# Altium schematic symbol library jlcpcb_2025_04_inductors_extended_0201.schlib: 459 symbols (part 1 of 9)
Pins are listed as number, name and electrical type; pins without a type are passive.

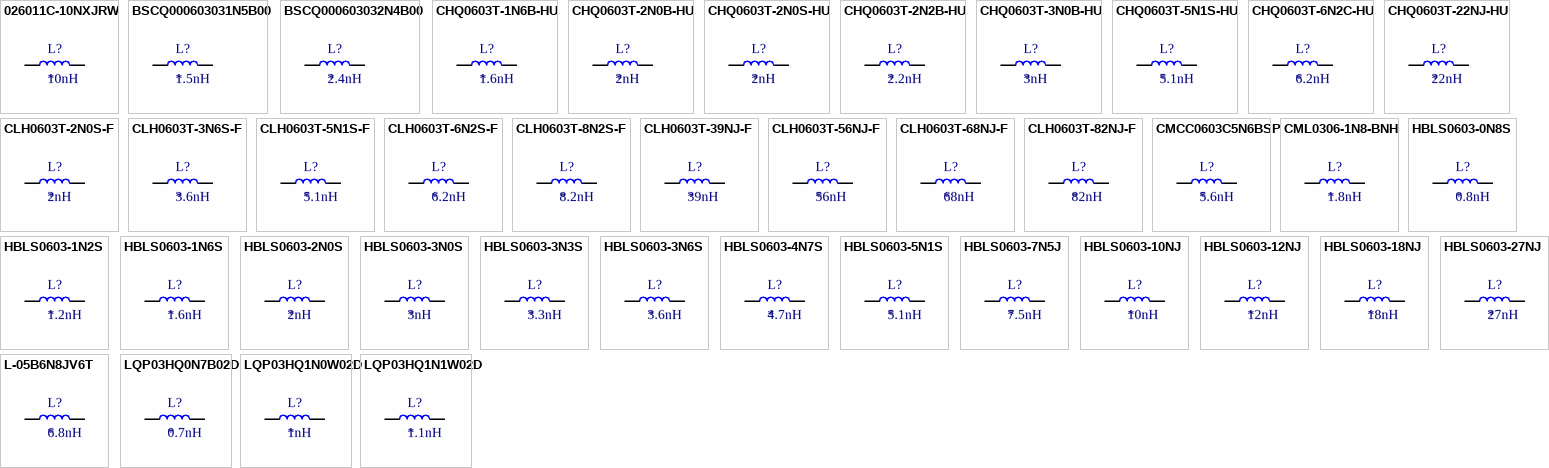
[diagram p0: symbols 026011C-10NXJRW to LQP03HQ1N1W02D]

## 026011C-10NXJRW
designator L?  Inductance: 10nH
Inductor, 10nH, ±5%, 190mΩ, 390mA, SMD 0201; Manufacturer: Coilcraft; Manufacturer Part Number: 026011C-10NXJRW; Self-Resonant Frequency: 7.5GHz; Q Factor: 47@900MHz; Package Size: 0201; JLCPCB Basic Part: No; JLCPCB Part Number: C335640; Supplier 1: LCSC; Category: Inductors; Supplier Part Number 1: C335640; Tolerance: ±5%; Rated Current: 390mA; DC Resistance: 190mΩ; RoHS: Yes; ComponentLink1Description: Datasheet; ComponentLink1URL: https://wmsc.lcsc.com/wmsc/upload/file/pdf/v2/lcsc/2304140030_Coilcraft-026011C-10NXJRW_C335640.pdf; ComponentLink2Description: JLCPCB Part URL; ComponentLink2URL: https://jlcpcb.com/partdetail/C335640; ComponentLink3Description: LCSC Part URL; ComponentLink3URL: https://lcsc.com/product-detail/Inductors-SMD_Coilcraft-Coilcraft-026011C-10NXJRW_C335640.html
footprint IND-0201 (0201 (0603M) Inductor)
pins: 1, 2

## BSCQ000603031N5B00
designator L?  Inductance: 1.5nH
Inductor, 1.5nH, 150mΩ, 600mA, SMD 0201; Manufacturer: Chilisin Elec; Manufacturer Part Number: BSCQ000603031N5B00; Self-Resonant Frequency: 10GHz; Q Factor: 14@500MHz; Package Size: 0201; JLCPCB Basic Part: No; JLCPCB Part Number: C2847095; Supplier 1: LCSC; Category: Inductors; Supplier Part Number 1: C2847095; Rated Current: 600mA; DC Resistance: 150mΩ; RoHS: Yes; ComponentLink1Description: Datasheet; ComponentLink1URL: https://wmsc.lcsc.com/wmsc/upload/file/pdf/v2/lcsc/2108142130_Chilisin-Elec-BSCQ000603031N5B00_C2847095.pdf; ComponentLink2Description: JLCPCB Part URL; ComponentLink2URL: https://jlcpcb.com/partdetail/C2847095; ComponentLink3Description: LCSC Part URL; ComponentLink3URL: https://lcsc.com/product-detail/Inductors-SMD_Chilisin-Elec-Chilisin-Elec-BSCQ000603031N5B00_C2847095.html
footprint IND-0201 (0201 (0603M) Inductor)
pins: 1, 2

## BSCQ000603032N4B00
designator L?  Inductance: 2.4nH
Inductor, 2.4nH, 260mΩ, 430mA, SMD 0201; Manufacturer: Chilisin Elec; Manufacturer Part Number: BSCQ000603032N4B00; Self-Resonant Frequency: 10GHz; Q Factor: 14@500MHz; Package Size: 0201; JLCPCB Basic Part: No; JLCPCB Part Number: C2935075; Supplier 1: LCSC; Category: Inductors; Supplier Part Number 1: C2935075; Rated Current: 430mA; DC Resistance: 260mΩ; RoHS: Yes; ComponentLink1Description: Datasheet; ComponentLink1URL: https://wmsc.lcsc.com/wmsc/upload/file/pdf/v2/lcsc/2211011730_Chilisin-Elec-BSCQ000603032N4B00_C2935075.pdf; ComponentLink2Description: JLCPCB Part URL; ComponentLink2URL: https://jlcpcb.com/partdetail/C2935075; ComponentLink3Description: LCSC Part URL; ComponentLink3URL: https://lcsc.com/product-detail/Inductors-SMD_Chilisin-Elec-Chilisin-Elec-BSCQ000603032N4B00_C2935075.html
footprint IND-0201 (0201 (0603M) Inductor)
pins: 1, 2

## CHQ0603T-1N6B-HU
designator L?  Inductance: 1.6nH
Inductor, 1.6nH, 190mΩ, 510mA, SMD 0201; Manufacturer: Chilisin Elec; Manufacturer Part Number: CHQ0603T-1N6B-HU; Package Size: 0201; JLCPCB Basic Part: No; JLCPCB Part Number: C910019; Supplier 1: LCSC; Category: Inductors; Supplier Part Number 1: C910019; Rated Current: 510mA; DC Resistance: 190mΩ; RoHS: Yes; ComponentLink1Description: Datasheet; ComponentLink1URL: https://wmsc.lcsc.com/wmsc/upload/file/pdf/v2/lcsc/2304140030_Chilisin-Elec-CHQ0603T-1N6B-HU_C910019.pdf; ComponentLink2Description: JLCPCB Part URL; ComponentLink2URL: https://jlcpcb.com/partdetail/C910019; ComponentLink3Description: LCSC Part URL; ComponentLink3URL: https://lcsc.com/product-detail/Inductors-SMD_Chilisin-Elec-Chilisin-Elec-CHQ0603T-1N6B-HU_C910019.html
footprint IND-0201 (0201 (0603M) Inductor)
pins: 1, 2

## CHQ0603T-2N0B-HU
designator L?  Inductance: 2nH
Inductor, 2nH, 150mΩ, 600mA, SMD 0201; Manufacturer: Chilisin Elec; Manufacturer Part Number: CHQ0603T-2N0B-HU; Self-Resonant Frequency: 10GHz; Q Factor: 14@500MHz; Package Size: 0201; JLCPCB Basic Part: No; JLCPCB Part Number: C295686; Supplier 1: LCSC; Category: Inductors; Supplier Part Number 1: C295686; Rated Current: 600mA; DC Resistance: 150mΩ; RoHS: Yes; ComponentLink1Description: Datasheet; ComponentLink1URL: https://wmsc.lcsc.com/wmsc/upload/file/pdf/v2/lcsc/2304140030_Chilisin-Elec-CHQ0603T-2N0B-HU_C295686.pdf; ComponentLink2Description: JLCPCB Part URL; ComponentLink2URL: https://jlcpcb.com/partdetail/C295686; ComponentLink3Description: LCSC Part URL; ComponentLink3URL: https://lcsc.com/product-detail/Inductors-SMD_Chilisin-Elec-Chilisin-Elec-CHQ0603T-2N0B-HU_C295686.html
footprint IND-0201 (0201 (0603M) Inductor)
pins: 1, 2

## CHQ0603T-2N0S-HU
designator L?  Inductance: 2nH
Inductor, 2nH, 150mΩ, 600mA, SMD 0201; Manufacturer: Chilisin Elec; Manufacturer Part Number: CHQ0603T-2N0S-HU; Package Size: 0201; JLCPCB Basic Part: No; JLCPCB Part Number: C910030; Supplier 1: LCSC; Category: Inductors; Supplier Part Number 1: C910030; Rated Current: 600mA; DC Resistance: 150mΩ; RoHS: Yes; ComponentLink1Description: Datasheet; ComponentLink1URL: https://wmsc.lcsc.com/wmsc/upload/file/pdf/v2/lcsc/2304140030_Chilisin-Elec-CHQ0603T-2N0S-HU_C910030.pdf; ComponentLink2Description: JLCPCB Part URL; ComponentLink2URL: https://jlcpcb.com/partdetail/C910030; ComponentLink3Description: LCSC Part URL; ComponentLink3URL: https://lcsc.com/product-detail/Inductors-SMD_Chilisin-Elec-Chilisin-Elec-CHQ0603T-2N0S-HU_C910030.html
footprint IND-0201 (0201 (0603M) Inductor)
pins: 1, 2

## CHQ0603T-2N2B-HU
designator L?  Inductance: 2.2nH
Inductor, 2.2nH, 200mΩ, 500mA, SMD 0201; Manufacturer: Chilisin Elec; Manufacturer Part Number: CHQ0603T-2N2B-HU; Self-Resonant Frequency: 10GHz; Q Factor: 14@500MHz; Package Size: 0201; JLCPCB Basic Part: No; JLCPCB Part Number: C373768; Supplier 1: LCSC; Category: Inductors; Supplier Part Number 1: C373768; Rated Current: 500mA; DC Resistance: 200mΩ; RoHS: Yes; ComponentLink1Description: Datasheet; ComponentLink1URL: https://wmsc.lcsc.com/wmsc/upload/file/pdf/v2/lcsc/2304140030_Chilisin-Elec-CHQ0603T-2N2B-HU_C373768.pdf; ComponentLink2Description: JLCPCB Part URL; ComponentLink2URL: https://jlcpcb.com/partdetail/C373768; ComponentLink3Description: LCSC Part URL; ComponentLink3URL: https://lcsc.com/product-detail/Inductors-SMD_Chilisin-Elec-Chilisin-Elec-CHQ0603T-2N2B-HU_C373768.html
footprint IND-0201 (0201 (0603M) Inductor)
pins: 1, 2

## CHQ0603T-3N0B-HU
designator L?  Inductance: 3nH
Inductor, 3nH, 240mΩ, 460mA, SMD 0201; Manufacturer: Chilisin Elec; Manufacturer Part Number: CHQ0603T-3N0B-HU; Self-Resonant Frequency: 9.1GHz; Q Factor: 14@500MHz; Package Size: 0201; JLCPCB Basic Part: No; JLCPCB Part Number: C373753; Supplier 1: LCSC; Category: Inductors; Supplier Part Number 1: C373753; Rated Current: 460mA; DC Resistance: 240mΩ; RoHS: Yes; ComponentLink1Description: Datasheet; ComponentLink1URL: https://wmsc.lcsc.com/wmsc/upload/file/pdf/v2/lcsc/2304140030_Chilisin-Elec-CHQ0603T-3N0B-HU_C373753.pdf; ComponentLink2Description: JLCPCB Part URL; ComponentLink2URL: https://jlcpcb.com/partdetail/C373753; ComponentLink3Description: LCSC Part URL; ComponentLink3URL: https://lcsc.com/product-detail/Inductors-SMD_Chilisin-Elec-Chilisin-Elec-CHQ0603T-3N0B-HU_C373753.html
footprint IND-0201 (0201 (0603M) Inductor)
pins: 1, 2

## CHQ0603T-5N1S-HU
designator L?  Inductance: 5.1nH
Inductor, 5.1nH, 450mΩ, 330mA, SMD 0201; Manufacturer: Chilisin Elec; Manufacturer Part Number: CHQ0603T-5N1S-HU; Package Size: 0201; JLCPCB Basic Part: No; JLCPCB Part Number: C910029; Supplier 1: LCSC; Category: Inductors; Supplier Part Number 1: C910029; Rated Current: 330mA; DC Resistance: 450mΩ; RoHS: Yes; ComponentLink1Description: Datasheet; ComponentLink1URL: https://wmsc.lcsc.com/wmsc/upload/file/pdf/v2/lcsc/2304140030_Chilisin-Elec-CHQ0603T-5N1S-HU_C910029.pdf; ComponentLink2Description: JLCPCB Part URL; ComponentLink2URL: https://jlcpcb.com/partdetail/C910029; ComponentLink3Description: LCSC Part URL; ComponentLink3URL: https://lcsc.com/product-detail/Inductors-SMD_Chilisin-Elec-Chilisin-Elec-CHQ0603T-5N1S-HU_C910029.html
footprint IND-0201 (0201 (0603M) Inductor)
pins: 1, 2

## CHQ0603T-6N2C-HU
designator L?  Inductance: 6.2nH
Inductor, 6.2nH, 520mΩ, SMD 0201; Manufacturer: Chilisin Elec; Manufacturer Part Number: CHQ0603T-6N2C-HU; Package Size: 0201; JLCPCB Basic Part: No; JLCPCB Part Number: C2844914; Supplier 1: LCSC; Category: Inductors; Supplier Part Number 1: C2844914; DC Resistance: 520mΩ; RoHS: Yes; ComponentLink1Description: Datasheet; ComponentLink1URL: https://wmsc.lcsc.com/wmsc/upload/file/pdf/v2/lcsc/2304140030_Chilisin-Elec-CHQ0603T-6N2C-HU_C2844914.pdf; ComponentLink2Description: JLCPCB Part URL; ComponentLink2URL: https://jlcpcb.com/partdetail/C2844914; ComponentLink3Description: LCSC Part URL; ComponentLink3URL: https://lcsc.com/product-detail/Inductors-SMD_Chilisin-Elec-Chilisin-Elec-CHQ0603T-6N2C-HU_C2844914.html
footprint IND-0201 (0201 (0603M) Inductor)
pins: 1, 2

## CHQ0603T-22NJ-HU
designator L?  Inductance: 22nH
Inductor, 22nH, ±5%, 1.29Ω, 190mA, SMD 0201; Manufacturer: Chilisin Elec; Manufacturer Part Number: CHQ0603T-22NJ-HU; Package Size: 0201; JLCPCB Basic Part: No; JLCPCB Part Number: C910032; Supplier 1: LCSC; Category: Inductors; Supplier Part Number 1: C910032; Tolerance: ±5%; Rated Current: 190mA; DC Resistance: 1.29Ω; RoHS: Yes; ComponentLink1Description: Datasheet; ComponentLink1URL: https://wmsc.lcsc.com/wmsc/upload/file/pdf/v2/lcsc/2304140030_Chilisin-Elec-CHQ0603T-22NJ-HU_C910032.pdf; ComponentLink2Description: JLCPCB Part URL; ComponentLink2URL: https://jlcpcb.com/partdetail/C910032; ComponentLink3Description: LCSC Part URL; ComponentLink3URL: https://lcsc.com/product-detail/Inductors-SMD_Chilisin-Elec-Chilisin-Elec-CHQ0603T-22NJ-HU_C910032.html
footprint IND-0201 (0201 (0603M) Inductor)
pins: 1, 2

## CLH0603T-2N0S-F
designator L?  Inductance: 2nH
Inductor, 2nH, 170mΩ, 380mA, SMD 0201; Manufacturer: Chilisin Elec; Manufacturer Part Number: CLH0603T-2N0S-F; Self-Resonant Frequency: 10GHz; Q Factor: 4@100MHz; Package Size: 0201; JLCPCB Basic Part: No; JLCPCB Part Number: C108230; Supplier 1: LCSC; Category: Inductors; Supplier Part Number 1: C108230; Rated Current: 380mA; DC Resistance: 170mΩ; RoHS: Yes; ComponentLink1Description: Datasheet; ComponentLink1URL: https://wmsc.lcsc.com/wmsc/upload/file/pdf/v2/lcsc/2304140030_Chilisin-Elec-CLH0603T-2N0S-F_C108230.pdf; ComponentLink2Description: JLCPCB Part URL; ComponentLink2URL: https://jlcpcb.com/partdetail/C108230; ComponentLink3Description: LCSC Part URL; ComponentLink3URL: https://lcsc.com/product-detail/Inductors-SMD_Chilisin-Elec-Chilisin-Elec-CLH0603T-2N0S-F_C108230.html
footprint IND-0201 (0201 (0603M) Inductor)
pins: 1, 2

## CLH0603T-3N6S-F
designator L?  Inductance: 3.6nH
Inductor, 3.6nH, 250mΩ, 310mA, SMD 0201; Manufacturer: Chilisin Elec; Manufacturer Part Number: CLH0603T-3N6S-F; Self-Resonant Frequency: 6.4GHz; Q Factor: 4@100MHz; Package Size: 0201; JLCPCB Basic Part: No; JLCPCB Part Number: C108237; Supplier 1: LCSC; Category: Inductors; Supplier Part Number 1: C108237; Rated Current: 310mA; DC Resistance: 250mΩ; RoHS: Yes; ComponentLink1Description: Datasheet; ComponentLink1URL: https://wmsc.lcsc.com/wmsc/upload/file/pdf/v2/lcsc/2304140030_Chilisin-Elec-CLH0603T-3N6S-F_C108237.pdf; ComponentLink2Description: JLCPCB Part URL; ComponentLink2URL: https://jlcpcb.com/partdetail/C108237; ComponentLink3Description: LCSC Part URL; ComponentLink3URL: https://lcsc.com/product-detail/Inductors-SMD_Chilisin-Elec-Chilisin-Elec-CLH0603T-3N6S-F_C108237.html
footprint IND-0201 (0201 (0603M) Inductor)
pins: 1, 2

## CLH0603T-5N1S-F
designator L?  Inductance: 5.1nH
Inductor, 5.1nH, 330mΩ, 270mA, SMD 0201; Manufacturer: Chilisin Elec; Manufacturer Part Number: CLH0603T-5N1S-F; Self-Resonant Frequency: 5GHz; Q Factor: 4@100MHz; Package Size: 0201; JLCPCB Basic Part: No; JLCPCB Part Number: C108241; Supplier 1: LCSC; Category: Inductors; Supplier Part Number 1: C108241; Rated Current: 270mA; DC Resistance: 330mΩ; RoHS: Yes; ComponentLink1Description: Datasheet; ComponentLink1URL: https://wmsc.lcsc.com/wmsc/upload/file/pdf/v2/lcsc/2304140030_Chilisin-Elec-CLH0603T-5N1S-F_C108241.pdf; ComponentLink2Description: JLCPCB Part URL; ComponentLink2URL: https://jlcpcb.com/partdetail/C108241; ComponentLink3Description: LCSC Part URL; ComponentLink3URL: https://lcsc.com/product-detail/Inductors-SMD_Chilisin-Elec-Chilisin-Elec-CLH0603T-5N1S-F_C108241.html
footprint IND-0201 (0201 (0603M) Inductor)
pins: 1, 2

## CLH0603T-6N2S-F
designator L?  Inductance: 6.2nH
Inductor, 6.2nH, 380mΩ, 250mA, SMD 0201; Manufacturer: Chilisin Elec; Manufacturer Part Number: CLH0603T-6N2S-F; Self-Resonant Frequency: 4.2GHz; Q Factor: 4@100MHz; Package Size: 0201; JLCPCB Basic Part: No; JLCPCB Part Number: C142255; Supplier 1: LCSC; Category: Inductors; Supplier Part Number 1: C142255; Rated Current: 250mA; DC Resistance: 380mΩ; RoHS: Yes; ComponentLink1Description: Datasheet; ComponentLink1URL: https://wmsc.lcsc.com/wmsc/upload/file/pdf/v2/lcsc/2304140030_Chilisin-Elec-CLH0603T-6N2S-F_C142255.pdf; ComponentLink2Description: JLCPCB Part URL; ComponentLink2URL: https://jlcpcb.com/partdetail/C142255; ComponentLink3Description: LCSC Part URL; ComponentLink3URL: https://lcsc.com/product-detail/Inductors-SMD_Chilisin-Elec-Chilisin-Elec-CLH0603T-6N2S-F_C142255.html
footprint IND-0201 (0201 (0603M) Inductor)
pins: 1, 2

## CLH0603T-8N2S-F
designator L?  Inductance: 8.2nH
Inductor, 8.2nH, ±5%, 0.45Ω, 230mA, SMD 0201; Manufacturer: Chilisin Elec; Manufacturer Part Number: CLH0603T-8N2S-F; Self-Resonant Frequency: 3.4GHz; Q Factor: 4@100MHz; Package Size: 0201; JLCPCB Basic Part: No; JLCPCB Part Number: C2847102; Supplier 1: LCSC; Category: Inductors; Supplier Part Number 1: C2847102; Tolerance: ±5%; Rated Current: 230mA; DC Resistance: 0.45Ω; RoHS: Yes; ComponentLink1Description: Datasheet; ComponentLink1URL: https://wmsc.lcsc.com/wmsc/upload/file/pdf/v2/lcsc/2111301730_Chilisin-Elec-CLH0603T-8N2S-F_C2847102.pdf; ComponentLink2Description: JLCPCB Part URL; ComponentLink2URL: https://jlcpcb.com/partdetail/C2847102; ComponentLink3Description: LCSC Part URL; ComponentLink3URL: https://lcsc.com/product-detail/Inductors-SMD_Chilisin-Elec-Chilisin-Elec-CLH0603T-8N2S-F_C2847102.html
footprint IND-0201 (0201 (0603M) Inductor)
pins: 1, 2

## CLH0603T-39NJ-F
designator L?  Inductance: 39nH
Inductor, 39nH, ±5%, 1.72Ω, 100mA, SMD 0201; Manufacturer: Chilisin Elec; Manufacturer Part Number: CLH0603T-39NJ-F; Self-Resonant Frequency: 1.5GHz; Q Factor: 4@100MHz; Package Size: 0201; JLCPCB Basic Part: No; JLCPCB Part Number: C142259; Supplier 1: LCSC; Category: Inductors; Supplier Part Number 1: C142259; Tolerance: ±5%; Rated Current: 100mA; DC Resistance: 1.72Ω; RoHS: Yes; ComponentLink1Description: Datasheet; ComponentLink1URL: https://wmsc.lcsc.com/wmsc/upload/file/pdf/v2/lcsc/2304140030_Chilisin-Elec-CLH0603T-39NJ-F_C142259.pdf; ComponentLink2Description: JLCPCB Part URL; ComponentLink2URL: https://jlcpcb.com/partdetail/C142259; ComponentLink3Description: LCSC Part URL; ComponentLink3URL: https://lcsc.com/product-detail/Inductors-SMD_Chilisin-Elec-Chilisin-Elec-CLH0603T-39NJ-F_C142259.html
footprint IND-0201 (0201 (0603M) Inductor)
pins: 1, 2

## CLH0603T-56NJ-F
designator L?  Inductance: 56nH
Inductor, 56nH, ±5%, 2.27Ω, 80mA, SMD 0201; Manufacturer: Chilisin Elec; Manufacturer Part Number: CLH0603T-56NJ-F; Self-Resonant Frequency: 1.1GHz; Q Factor: 4@100MHz; Package Size: 0201; JLCPCB Basic Part: No; JLCPCB Part Number: C142257; Supplier 1: LCSC; Category: Inductors; Supplier Part Number 1: C142257; Tolerance: ±5%; Rated Current: 80mA; DC Resistance: 2.27Ω; RoHS: Yes; ComponentLink1Description: Datasheet; ComponentLink1URL: https://wmsc.lcsc.com/wmsc/upload/file/pdf/v2/lcsc/2304140030_Chilisin-Elec-CLH0603T-56NJ-F_C142257.pdf; ComponentLink2Description: JLCPCB Part URL; ComponentLink2URL: https://jlcpcb.com/partdetail/C142257; ComponentLink3Description: LCSC Part URL; ComponentLink3URL: https://lcsc.com/product-detail/Inductors-SMD_Chilisin-Elec-Chilisin-Elec-CLH0603T-56NJ-F_C142257.html
footprint IND-0201 (0201 (0603M) Inductor)
pins: 1, 2

## CLH0603T-68NJ-F
designator L?  Inductance: 68nH
Inductor, 68nH, ±5%, 2.66Ω, 80mA, SMD 0201; Manufacturer: Chilisin Elec; Manufacturer Part Number: CLH0603T-68NJ-F; Self-Resonant Frequency: 1.1GHz; Q Factor: 4@100MHz; Package Size: 0201; JLCPCB Basic Part: No; JLCPCB Part Number: C142256; Supplier 1: LCSC; Category: Inductors; Supplier Part Number 1: C142256; Tolerance: ±5%; Rated Current: 80mA; DC Resistance: 2.66Ω; RoHS: Yes; ComponentLink1Description: Datasheet; ComponentLink1URL: https://wmsc.lcsc.com/wmsc/upload/file/pdf/v2/lcsc/2304140030_Chilisin-Elec-CLH0603T-68NJ-F_C142256.pdf; ComponentLink2Description: JLCPCB Part URL; ComponentLink2URL: https://jlcpcb.com/partdetail/C142256; ComponentLink3Description: LCSC Part URL; ComponentLink3URL: https://lcsc.com/product-detail/Inductors-SMD_Chilisin-Elec-Chilisin-Elec-CLH0603T-68NJ-F_C142256.html
footprint IND-0201 (0201 (0603M) Inductor)
pins: 1, 2

## CLH0603T-82NJ-F
designator L?  Inductance: 82nH
Inductor, 82nH, ±5%, 3.37Ω, 70mA, SMD 0201; Manufacturer: Chilisin Elec; Manufacturer Part Number: CLH0603T-82NJ-F; Self-Resonant Frequency: 1GHz; Q Factor: 4@100MHz; Package Size: 0201; JLCPCB Basic Part: No; JLCPCB Part Number: C142254; Supplier 1: LCSC; Category: Inductors; Supplier Part Number 1: C142254; Tolerance: ±5%; Rated Current: 70mA; DC Resistance: 3.37Ω; RoHS: Yes; ComponentLink1Description: Datasheet; ComponentLink1URL: https://wmsc.lcsc.com/wmsc/upload/file/pdf/v2/lcsc/2304140030_Chilisin-Elec-CLH0603T-82NJ-F_C142254.pdf; ComponentLink2Description: JLCPCB Part URL; ComponentLink2URL: https://jlcpcb.com/partdetail/C142254; ComponentLink3Description: LCSC Part URL; ComponentLink3URL: https://lcsc.com/product-detail/Inductors-SMD_Chilisin-Elec-Chilisin-Elec-CLH0603T-82NJ-F_C142254.html
footprint IND-0201 (0201 (0603M) Inductor)
pins: 1, 2

## CMCC0603C5N6BSP
designator L?  Inductance: 5.6nH
Inductor, 5.6nH, 46mΩ, 210mA, SMD 0201; Manufacturer: Cybermax; Manufacturer Part Number: CMCC0603C5N6BSP; Self-Resonant Frequency: 5.5GHz; Q Factor: 13@500MHz; Package Size: 0201; JLCPCB Basic Part: No; JLCPCB Part Number: C405237; Supplier 1: LCSC; Category: Inductors; Supplier Part Number 1: C405237; Rated Current: 210mA; DC Resistance: 46mΩ; RoHS: Yes; ComponentLink1Description: Datasheet; ComponentLink1URL: https://wmsc.lcsc.com/wmsc/upload/file/pdf/v2/lcsc/2304140030_Cybermax-CMCC0603C5N6BSP_C405237.pdf; ComponentLink2Description: JLCPCB Part URL; ComponentLink2URL: https://jlcpcb.com/partdetail/C405237; ComponentLink3Description: LCSC Part URL; ComponentLink3URL: https://lcsc.com/product-detail/Inductors-SMD_Cybermax-Cybermax-CMCC0603C5N6BSP_C405237.html
footprint IND-0201 (0201 (0603M) Inductor)
pins: 1, 2

## CML0306-1N8-BNH
designator L?  Inductance: 1.8nH
Inductor, 1.8nH, 200mΩ, 390mA, SMD 0201; Manufacturer: Cyntec; Manufacturer Part Number: CML0306-1N8-BNH; Self-Resonant Frequency: 6GHz; Q Factor: 4@100MHz; Package Size: 0201; JLCPCB Basic Part: No; JLCPCB Part Number: C218748; Supplier 1: LCSC; Category: Inductors; Supplier Part Number 1: C218748; Rated Current: 390mA; DC Resistance: 200mΩ; RoHS: Yes; ComponentLink1Description: Datasheet; ComponentLink1URL: https://wmsc.lcsc.com/wmsc/upload/file/pdf/v2/lcsc/2304140030_Cyntec-CML0306-1N8-BNH_C218748.pdf; ComponentLink2Description: JLCPCB Part URL; ComponentLink2URL: https://jlcpcb.com/partdetail/C218748; ComponentLink3Description: LCSC Part URL; ComponentLink3URL: https://lcsc.com/product-detail/Inductors-SMD_Cyntec-Cyntec-CML0306-1N8-BNH_C218748.html
footprint IND-0201 (0201 (0603M) Inductor)
pins: 1, 2

## HBLS0603-0N8S
designator L?  Inductance: 0.8nH
Inductor, 0.8nH, 0.07Ω, 550mA, SMD 0201; Manufacturer: HYHONGYEX; Manufacturer Part Number: HBLS0603-0N8S; Package Size: 0201; JLCPCB Basic Part: No; JLCPCB Part Number: C963916; Supplier 1: LCSC; Category: Inductors; Supplier Part Number 1: C963916; Rated Current: 550mA; DC Resistance: 0.07Ω; RoHS: Yes; ComponentLink1Description: Datasheet; ComponentLink1URL: https://wmsc.lcsc.com/wmsc/upload/file/pdf/v2/lcsc/2206142015_HYHONGYEX-HBLS0603-0N8S_C963916.pdf; ComponentLink2Description: JLCPCB Part URL; ComponentLink2URL: https://jlcpcb.com/partdetail/C963916; ComponentLink3Description: LCSC Part URL; ComponentLink3URL: https://lcsc.com/product-detail/Inductors-SMD_HYHONGYEX-HYHONGYEX-HBLS0603-0N8S_C963916.html
footprint IND-0201 (0201 (0603M) Inductor)
pins: 1, 2

## HBLS0603-1N2S
designator L?  Inductance: 1.2nH
Inductor, 1.2nH, 0.12Ω, 420mA, SMD 0201; Manufacturer: HYHONGYEX; Manufacturer Part Number: HBLS0603-1N2S; Self-Resonant Frequency: 10GHz; Q Factor: 13@500MHz; Package Size: 0201; JLCPCB Basic Part: No; JLCPCB Part Number: C963920; Supplier 1: LCSC; Category: Inductors; Supplier Part Number 1: C963920; Rated Current: 420mA; DC Resistance: 0.12Ω; RoHS: Yes; ComponentLink1Description: Datasheet; ComponentLink1URL: https://wmsc.lcsc.com/wmsc/upload/file/pdf/v2/lcsc/2012171914_HYHONGYEX-HBLS0603-1N2S_C963920.pdf; ComponentLink2Description: JLCPCB Part URL; ComponentLink2URL: https://jlcpcb.com/partdetail/C963920; ComponentLink3Description: LCSC Part URL; ComponentLink3URL: https://lcsc.com/product-detail/Inductors-SMD_HYHONGYEX-HYHONGYEX-HBLS0603-1N2S_C963920.html
footprint IND-0201 (0201 (0603M) Inductor)
pins: 1, 2

## HBLS0603-1N6S
designator L?  Inductance: 1.6nH
Inductor, 1.6nH, 0.13Ω, 410mA, SMD 0201; Manufacturer: HYHONGYEX; Manufacturer Part Number: HBLS0603-1N6S; Package Size: 0201; JLCPCB Basic Part: No; JLCPCB Part Number: C963924; Supplier 1: LCSC; Category: Inductors; Supplier Part Number 1: C963924; Rated Current: 410mA; DC Resistance: 0.13Ω; RoHS: Yes; ComponentLink1Description: Datasheet; ComponentLink1URL: https://wmsc.lcsc.com/wmsc/upload/file/pdf/v2/lcsc/2206142015_HYHONGYEX-HBLS0603-1N6S_C963924.pdf; ComponentLink2Description: JLCPCB Part URL; ComponentLink2URL: https://jlcpcb.com/partdetail/C963924; ComponentLink3Description: LCSC Part URL; ComponentLink3URL: https://lcsc.com/product-detail/Inductors-SMD_HYHONGYEX-HYHONGYEX-HBLS0603-1N6S_C963924.html
footprint IND-0201 (0201 (0603M) Inductor)
pins: 1, 2

## HBLS0603-2N0S
designator L?  Inductance: 2nH
Inductor, 2nH, 0.23Ω, 300mA, SMD 0201; Manufacturer: HYHONGYEX; Manufacturer Part Number: HBLS0603-2N0S; Self-Resonant Frequency: 10GHz; Q Factor: 13@500MHz; Package Size: 0201; JLCPCB Basic Part: No; JLCPCB Part Number: C963928; Supplier 1: LCSC; Category: Inductors; Supplier Part Number 1: C963928; Rated Current: 300mA; DC Resistance: 0.23Ω; RoHS: Yes; ComponentLink1Description: Datasheet; ComponentLink1URL: https://wmsc.lcsc.com/wmsc/upload/file/pdf/v2/lcsc/2012171914_HYHONGYEX-HBLS0603-2N0S_C963928.pdf; ComponentLink2Description: JLCPCB Part URL; ComponentLink2URL: https://jlcpcb.com/partdetail/C963928; ComponentLink3Description: LCSC Part URL; ComponentLink3URL: https://lcsc.com/product-detail/Inductors-SMD_HYHONGYEX-HYHONGYEX-HBLS0603-2N0S_C963928.html
footprint IND-0201 (0201 (0603M) Inductor)
pins: 1, 2

## HBLS0603-3N0S
designator L?  Inductance: 3nH
Inductor, 3nH, 0.26Ω, 280mA, SMD 0201; Manufacturer: HYHONGYEX; Manufacturer Part Number: HBLS0603-3N0S; Self-Resonant Frequency: 8.6GHz; Q Factor: 13@500MHz; Package Size: 0201; JLCPCB Basic Part: No; JLCPCB Part Number: C963938; Supplier 1: LCSC; Category: Inductors; Supplier Part Number 1: C963938; Rated Current: 280mA; DC Resistance: 0.26Ω; RoHS: Yes; ComponentLink1Description: Datasheet; ComponentLink1URL: https://wmsc.lcsc.com/wmsc/upload/file/pdf/v2/lcsc/2012171915_HYHONGYEX-HBLS0603-3N0S_C963938.pdf; ComponentLink2Description: JLCPCB Part URL; ComponentLink2URL: https://jlcpcb.com/partdetail/C963938; ComponentLink3Description: LCSC Part URL; ComponentLink3URL: https://lcsc.com/product-detail/Inductors-SMD_HYHONGYEX-HYHONGYEX-HBLS0603-3N0S_C963938.html
footprint IND-0201 (0201 (0603M) Inductor)
pins: 1, 2

## HBLS0603-3N3S
designator L?  Inductance: 3.3nH
Inductor, 3.3nH, 0.3Ω, 270mA, SMD 0201; Manufacturer: HYHONGYEX; Manufacturer Part Number: HBLS0603-3N3S; Self-Resonant Frequency: 8.1GHz; Q Factor: 13@500MHz; Package Size: 0201; JLCPCB Basic Part: No; JLCPCB Part Number: C963941; Supplier 1: LCSC; Category: Inductors; Supplier Part Number 1: C963941; Rated Current: 270mA; DC Resistance: 0.3Ω; RoHS: Yes; ComponentLink1Description: Datasheet; ComponentLink1URL: https://wmsc.lcsc.com/wmsc/upload/file/pdf/v2/lcsc/2012171915_HYHONGYEX-HBLS0603-3N3S_C963941.pdf; ComponentLink2Description: JLCPCB Part URL; ComponentLink2URL: https://jlcpcb.com/partdetail/C963941; ComponentLink3Description: LCSC Part URL; ComponentLink3URL: https://lcsc.com/product-detail/Inductors-SMD_HYHONGYEX-HYHONGYEX-HBLS0603-3N3S_C963941.html
footprint IND-0201 (0201 (0603M) Inductor)
pins: 1, 2

## HBLS0603-3N6S
designator L?  Inductance: 3.6nH
Inductor, 3.6nH, 0.38Ω, 240mA, SMD 0201; Manufacturer: HYHONGYEX; Manufacturer Part Number: HBLS0603-3N6S; Self-Resonant Frequency: 7.7GHz; Q Factor: 13@500MHz; Package Size: 0201; JLCPCB Basic Part: No; JLCPCB Part Number: C963944; Supplier 1: LCSC; Category: Inductors; Supplier Part Number 1: C963944; Rated Current: 240mA; DC Resistance: 0.38Ω; RoHS: Yes; ComponentLink1Description: Datasheet; ComponentLink1URL: https://wmsc.lcsc.com/wmsc/upload/file/pdf/v2/lcsc/2012171915_HYHONGYEX-HBLS0603-3N6S_C963944.pdf; ComponentLink2Description: JLCPCB Part URL; ComponentLink2URL: https://jlcpcb.com/partdetail/C963944; ComponentLink3Description: LCSC Part URL; ComponentLink3URL: https://lcsc.com/product-detail/Inductors-SMD_HYHONGYEX-HYHONGYEX-HBLS0603-3N6S_C963944.html
footprint IND-0201 (0201 (0603M) Inductor)
pins: 1, 2

## HBLS0603-4N7S
designator L?  Inductance: 4.7nH
Inductor, 4.7nH, 0.45Ω, 220mA, SMD 0201; Manufacturer: HYHONGYEX; Manufacturer Part Number: HBLS0603-4N7S; Self-Resonant Frequency: 6.2GHz; Q Factor: 13@500MHz; Package Size: 0201; JLCPCB Basic Part: No; JLCPCB Part Number: C963949; Supplier 1: LCSC; Category: Inductors; Supplier Part Number 1: C963949; Rated Current: 220mA; DC Resistance: 0.45Ω; RoHS: Yes; ComponentLink1Description: Datasheet; ComponentLink1URL: https://wmsc.lcsc.com/wmsc/upload/file/pdf/v2/lcsc/2012171915_HYHONGYEX-HBLS0603-4N7S_C963949.pdf; ComponentLink2Description: JLCPCB Part URL; ComponentLink2URL: https://jlcpcb.com/partdetail/C963949; ComponentLink3Description: LCSC Part URL; ComponentLink3URL: https://lcsc.com/product-detail/Inductors-SMD_HYHONGYEX-HYHONGYEX-HBLS0603-4N7S_C963949.html
footprint IND-0201 (0201 (0603M) Inductor)
pins: 1, 2

## HBLS0603-5N1S
designator L?  Inductance: 5.1nH
Inductor, 5.1nH, 0.46Ω, 210mA, SMD 0201; Manufacturer: HYHONGYEX; Manufacturer Part Number: HBLS0603-5N1S; Self-Resonant Frequency: 5.9GHz; Q Factor: 13@500MHz; Package Size: 0201; JLCPCB Basic Part: No; JLCPCB Part Number: C963950; Supplier 1: LCSC; Category: Inductors; Supplier Part Number 1: C963950; Rated Current: 210mA; DC Resistance: 0.46Ω; RoHS: Yes; ComponentLink1Description: Datasheet; ComponentLink1URL: https://wmsc.lcsc.com/wmsc/upload/file/pdf/v2/lcsc/2012171915_HYHONGYEX-HBLS0603-5N1S_C963950.pdf; ComponentLink2Description: JLCPCB Part URL; ComponentLink2URL: https://jlcpcb.com/partdetail/C963950; ComponentLink3Description: LCSC Part URL; ComponentLink3URL: https://lcsc.com/product-detail/Inductors-SMD_HYHONGYEX-HYHONGYEX-HBLS0603-5N1S_C963950.html
footprint IND-0201 (0201 (0603M) Inductor)
pins: 1, 2

## HBLS0603-7N5J
designator L?  Inductance: 7.5nH
Inductor, 7.5nH, ±5%, 0.5Ω, 200mA, SMD 0201; Manufacturer: HYHONGYEX; Manufacturer Part Number: HBLS0603-7N5J; Self-Resonant Frequency: 4.7GHz; Q Factor: 13@500MHz; Package Size: 0201; JLCPCB Basic Part: No; JLCPCB Part Number: C963954; Supplier 1: LCSC; Category: Inductors; Supplier Part Number 1: C963954; Tolerance: ±5%; Rated Current: 200mA; DC Resistance: 0.5Ω; RoHS: Yes; ComponentLink1Description: Datasheet; ComponentLink1URL: https://wmsc.lcsc.com/wmsc/upload/file/pdf/v2/lcsc/2012171915_HYHONGYEX-HBLS0603-7N5J_C963954.pdf; ComponentLink2Description: JLCPCB Part URL; ComponentLink2URL: https://jlcpcb.com/partdetail/C963954; ComponentLink3Description: LCSC Part URL; ComponentLink3URL: https://lcsc.com/product-detail/Inductors-SMD_HYHONGYEX-HYHONGYEX-HBLS0603-7N5J_C963954.html
footprint IND-0201 (0201 (0603M) Inductor)
pins: 1, 2

## HBLS0603-10NJ
designator L?  Inductance: 10nH
Inductor, 10nH, ±5%, 0.8Ω, 160mA, SMD 0201; Manufacturer: HYHONGYEX; Manufacturer Part Number: HBLS0603-10NJ; Self-Resonant Frequency: 3.8GHz; Q Factor: 13@500MHz; Package Size: 0201; JLCPCB Basic Part: No; JLCPCB Part Number: C963957; Supplier 1: LCSC; Category: Inductors; Supplier Part Number 1: C963957; Tolerance: ±5%; Rated Current: 160mA; DC Resistance: 0.8Ω; RoHS: Yes; ComponentLink1Description: Datasheet; ComponentLink1URL: https://wmsc.lcsc.com/wmsc/upload/file/pdf/v2/lcsc/2012171915_HYHONGYEX-HBLS0603-10NJ_C963957.pdf; ComponentLink2Description: JLCPCB Part URL; ComponentLink2URL: https://jlcpcb.com/partdetail/C963957; ComponentLink3Description: LCSC Part URL; ComponentLink3URL: https://lcsc.com/product-detail/Inductors-SMD_HYHONGYEX-HYHONGYEX-HBLS0603-10NJ_C963957.html
footprint IND-0201 (0201 (0603M) Inductor)
pins: 1, 2

## HBLS0603-12NJ
designator L?  Inductance: 12nH
Inductor, 12nH, ±5%, 0.8Ω, 160mA, SMD 0201; Manufacturer: HYHONGYEX; Manufacturer Part Number: HBLS0603-12NJ; Self-Resonant Frequency: 3.4GHz; Q Factor: 13@500MHz; Package Size: 0201; JLCPCB Basic Part: No; JLCPCB Part Number: C963958; Supplier 1: LCSC; Category: Inductors; Supplier Part Number 1: C963958; Tolerance: ±5%; Rated Current: 160mA; DC Resistance: 0.8Ω; RoHS: Yes; ComponentLink1Description: Datasheet; ComponentLink1URL: https://wmsc.lcsc.com/wmsc/upload/file/pdf/v2/lcsc/2012171915_HYHONGYEX-HBLS0603-12NJ_C963958.pdf; ComponentLink2Description: JLCPCB Part URL; ComponentLink2URL: https://jlcpcb.com/partdetail/C963958; ComponentLink3Description: LCSC Part URL; ComponentLink3URL: https://lcsc.com/product-detail/Inductors-SMD_HYHONGYEX-HYHONGYEX-HBLS0603-12NJ_C963958.html
footprint IND-0201 (0201 (0603M) Inductor)
pins: 1, 2

## HBLS0603-18NJ
designator L?  Inductance: 18nH
Inductor, 18nH, ±5%, 1Ω, 140mA, SMD 0201; Manufacturer: HYHONGYEX; Manufacturer Part Number: HBLS0603-18NJ; Self-Resonant Frequency: 2.3GHz; Q Factor: 13@500MHz; Package Size: 0201; JLCPCB Basic Part: No; JLCPCB Part Number: C963960; Supplier 1: LCSC; Category: Inductors; Supplier Part Number 1: C963960; Tolerance: ±5%; Rated Current: 140mA; DC Resistance: 1Ω; RoHS: Yes; ComponentLink1Description: Datasheet; ComponentLink1URL: https://wmsc.lcsc.com/wmsc/upload/file/pdf/v2/lcsc/2012171915_HYHONGYEX-HBLS0603-18NJ_C963960.pdf; ComponentLink2Description: JLCPCB Part URL; ComponentLink2URL: https://jlcpcb.com/partdetail/C963960; ComponentLink3Description: LCSC Part URL; ComponentLink3URL: https://lcsc.com/product-detail/Inductors-SMD_HYHONGYEX-HYHONGYEX-HBLS0603-18NJ_C963960.html
footprint IND-0201 (0201 (0603M) Inductor)
pins: 1, 2

## HBLS0603-27NJ
designator L?  Inductance: 27nH
Inductor, 27nH, ±5%, 1.6Ω, 120mA, SMD 0201; Manufacturer: HYHONGYEX; Manufacturer Part Number: HBLS0603-27NJ; Self-Resonant Frequency: 1.8GHz; Q Factor: 13@500MHz; Package Size: 0201; JLCPCB Basic Part: No; JLCPCB Part Number: C963962; Supplier 1: LCSC; Category: Inductors; Supplier Part Number 1: C963962; Tolerance: ±5%; Rated Current: 120mA; DC Resistance: 1.6Ω; RoHS: Yes; ComponentLink1Description: Datasheet; ComponentLink1URL: https://wmsc.lcsc.com/wmsc/upload/file/pdf/v2/lcsc/2012171915_HYHONGYEX-HBLS0603-27NJ_C963962.pdf; ComponentLink2Description: JLCPCB Part URL; ComponentLink2URL: https://jlcpcb.com/partdetail/C963962; ComponentLink3Description: LCSC Part URL; ComponentLink3URL: https://lcsc.com/product-detail/Inductors-SMD_HYHONGYEX-HYHONGYEX-HBLS0603-27NJ_C963962.html
footprint IND-0201 (0201 (0603M) Inductor)
pins: 1, 2

## L-05B6N8JV6T
designator L?  Inductance: 6.8nH
Inductor, 6.8nH, ±5%, 700mΩ, 250mA, SMD 0201; Manufacturer: Johanson Dielectrics; Manufacturer Part Number: L-05B6N8JV6T; Self-Resonant Frequency: 4.8GHz; Q Factor: 5@100MHz; Package Size: 0201; JLCPCB Basic Part: No; JLCPCB Part Number: C3911253; Supplier 1: LCSC; Category: Inductors; Supplier Part Number 1: C3911253; Tolerance: ±5%; Rated Current: 250mA; DC Resistance: 700mΩ; RoHS: Yes; ComponentLink1Description: Datasheet; ComponentLink1URL: https://wmsc.lcsc.com/wmsc/upload/file/pdf/v2/lcsc/2401181714_Johanson-Dielectrics-L-05B6N8JV6T_C3911253.pdf; ComponentLink2Description: JLCPCB Part URL; ComponentLink2URL: https://jlcpcb.com/partdetail/C3911253; ComponentLink3Description: LCSC Part URL; ComponentLink3URL: https://lcsc.com/product-detail/Inductors-SMD_Johanson-Dielectrics-Johanson-Dielectrics-L-05B6N8JV6T_C3911253.html
footprint IND-0201 (0201 (0603M) Inductor)
pins: 1, 2

## LQP03HQ0N7B02D
designator L?  Inductance: 0.7nH
Inductor, 0.7nH, 40mΩ, 1.1A, SMD 0201; Manufacturer: Murata Electronics; Manufacturer Part Number: LQP03HQ0N7B02D; Self-Resonant Frequency: 20GHz; Q Factor: 20@500MHz; Package Size: 0201; JLCPCB Basic Part: No; JLCPCB Part Number: C2044590; Supplier 1: LCSC; Category: Inductors; Supplier Part Number 1: C2044590; Rated Current: 1.1A; DC Resistance: 40mΩ; RoHS: Yes; ComponentLink1Description: Datasheet; ComponentLink1URL: https://wmsc.lcsc.com/wmsc/upload/file/pdf/v2/lcsc/2304140030_Murata-Electronics-LQP03HQ0N7B02D_C2044590.pdf; ComponentLink2Description: JLCPCB Part URL; ComponentLink2URL: https://jlcpcb.com/partdetail/C2044590; ComponentLink3Description: LCSC Part URL; ComponentLink3URL: https://lcsc.com/product-detail/Inductors-SMD_Murata-Electronics-Murata-Electronics-LQP03HQ0N7B02D_C2044590.html
footprint IND-0201 (0201 (0603M) Inductor)
pins: 1, 2

## LQP03HQ1N0W02D
designator L?  Inductance: 1nH
Inductor, 1nH, 40mΩ, 1.1A, SMD 0201; Manufacturer: Murata Electronics; Manufacturer Part Number: LQP03HQ1N0W02D; Self-Resonant Frequency: 20GHz; Q Factor: 20@500MHz; Package Size: 0201; JLCPCB Basic Part: No; JLCPCB Part Number: C2041448; Supplier 1: LCSC; Category: Inductors; Supplier Part Number 1: C2041448; Rated Current: 1.1A; DC Resistance: 40mΩ; RoHS: Yes; ComponentLink1Description: Datasheet; ComponentLink1URL: https://wmsc.lcsc.com/wmsc/upload/file/pdf/v2/lcsc/2304140030_Murata-Electronics-LQP03HQ1N0W02D_C2041448.pdf; ComponentLink2Description: JLCPCB Part URL; ComponentLink2URL: https://jlcpcb.com/partdetail/C2041448; ComponentLink3Description: LCSC Part URL; ComponentLink3URL: https://lcsc.com/product-detail/Inductors-SMD_Murata-Electronics-Murata-Electronics-LQP03HQ1N0W02D_C2041448.html
footprint IND-0201 (0201 (0603M) Inductor)
pins: 1, 2

## LQP03HQ1N1W02D
designator L?  Inductance: 1.1nH
Inductor, 1.1nH, 40mΩ, 1.1A, SMD 0201; Manufacturer: Murata Electronics; Manufacturer Part Number: LQP03HQ1N1W02D; Q Factor: 20@500MHz; Package Size: 0201; JLCPCB Basic Part: No; JLCPCB Part Number: C5239879; Supplier 1: LCSC; Category: Inductors; Supplier Part Number 1: C5239879; Rated Current: 1.1A; DC Resistance: 40mΩ; RoHS: Yes; ComponentLink1Description: Datasheet; ComponentLink1URL: https://wmsc.lcsc.com/wmsc/upload/file/pdf/v2/lcsc/2308111352_Murata-Electronics-LQP03HQ1N1W02D_C5239879.pdf; ComponentLink2Description: JLCPCB Part URL; ComponentLink2URL: https://jlcpcb.com/partdetail/C5239879; ComponentLink3Description: LCSC Part URL; ComponentLink3URL: https://lcsc.com/product-detail/Inductors-SMD_Murata-Electronics-Murata-Electronics-LQP03HQ1N1W02D_C5239879.html
footprint IND-0201 (0201 (0603M) Inductor)
pins: 1, 2

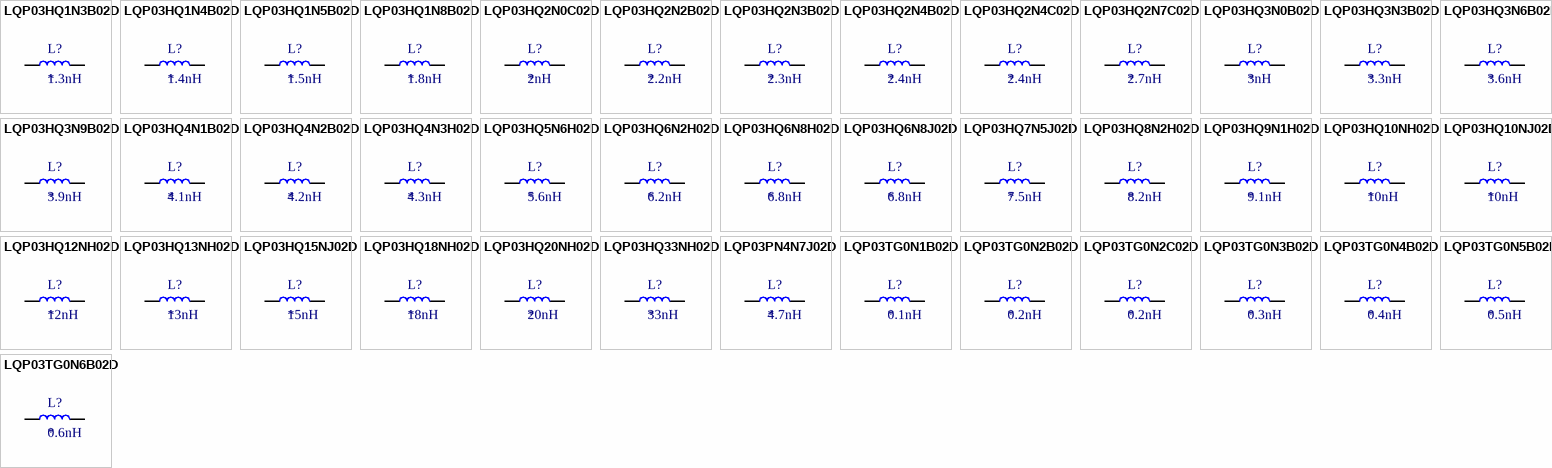
[diagram p1: symbols LQP03HQ1N3B02D to LQP03TG0N6B02D]

## LQP03HQ1N3B02D
designator L?  Inductance: 1.3nH
Inductor, 1.3nH, 40mΩ, 1.1A, SMD 0201; Manufacturer: Murata Electronics; Manufacturer Part Number: LQP03HQ1N3B02D; Self-Resonant Frequency: 13GHz; Q Factor: 20@500MHz; Package Size: 0201; JLCPCB Basic Part: No; JLCPCB Part Number: C2044324; Supplier 1: LCSC; Category: Inductors; Supplier Part Number 1: C2044324; Rated Current: 1.1A; DC Resistance: 40mΩ; RoHS: Yes; ComponentLink1Description: Datasheet; ComponentLink1URL: https://wmsc.lcsc.com/wmsc/upload/file/pdf/v2/lcsc/2304140030_Murata-Electronics-LQP03HQ1N3B02D_C2044324.pdf; ComponentLink2Description: JLCPCB Part URL; ComponentLink2URL: https://jlcpcb.com/partdetail/C2044324; ComponentLink3Description: LCSC Part URL; ComponentLink3URL: https://lcsc.com/product-detail/Inductors-SMD_Murata-Electronics-Murata-Electronics-LQP03HQ1N3B02D_C2044324.html
footprint IND-0201 (0201 (0603M) Inductor)
pins: 1, 2

## LQP03HQ1N4B02D
designator L?  Inductance: 1.4nH
Inductor, 1.4nH, 40mΩ, 1.1A, SMD 0201; Manufacturer: Murata Electronics; Manufacturer Part Number: LQP03HQ1N4B02D; Self-Resonant Frequency: 12GHz; Q Factor: 20@500MHz; Package Size: 0201; JLCPCB Basic Part: No; JLCPCB Part Number: C237383; Supplier 1: LCSC; Category: Inductors; Supplier Part Number 1: C237383; Rated Current: 1.1A; DC Resistance: 40mΩ; RoHS: Yes; ComponentLink1Description: Datasheet; ComponentLink1URL: https://wmsc.lcsc.com/wmsc/upload/file/pdf/v2/lcsc/2304140030_Murata-Electronics-LQP03HQ1N4B02D_C237383.pdf; ComponentLink2Description: JLCPCB Part URL; ComponentLink2URL: https://jlcpcb.com/partdetail/C237383; ComponentLink3Description: LCSC Part URL; ComponentLink3URL: https://lcsc.com/product-detail/Inductors-SMD_Murata-Electronics-Murata-Electronics-LQP03HQ1N4B02D_C237383.html
footprint IND-0201 (0201 (0603M) Inductor)
pins: 1, 2

## LQP03HQ1N5B02D
designator L?  Inductance: 1.5nH
Inductor, 1.5nH, 50mΩ, 1A, SMD 0201; Manufacturer: Murata Electronics; Manufacturer Part Number: LQP03HQ1N5B02D; Self-Resonant Frequency: 12GHz; Q Factor: 20@500MHz; Package Size: 0201; JLCPCB Basic Part: No; JLCPCB Part Number: C2041489; Supplier 1: LCSC; Category: Inductors; Supplier Part Number 1: C2041489; Rated Current: 1A; DC Resistance: 50mΩ; RoHS: Yes; ComponentLink1Description: Datasheet; ComponentLink1URL: https://wmsc.lcsc.com/wmsc/upload/file/pdf/v2/lcsc/2304140030_Murata-Electronics-LQP03HQ1N5B02D_C2041489.pdf; ComponentLink2Description: JLCPCB Part URL; ComponentLink2URL: https://jlcpcb.com/partdetail/C2041489; ComponentLink3Description: LCSC Part URL; ComponentLink3URL: https://lcsc.com/product-detail/Inductors-SMD_Murata-Electronics-Murata-Electronics-LQP03HQ1N5B02D_C2041489.html
footprint IND-0201 (0201 (0603M) Inductor)
pins: 1, 2

## LQP03HQ1N8B02D
designator L?  Inductance: 1.8nH
Inductor, 1.8nH, 80mΩ, 800mA, SMD 0201; Manufacturer: Murata Electronics; Manufacturer Part Number: LQP03HQ1N8B02D; Self-Resonant Frequency: 10GHz; Q Factor: 20@500MHz; Package Size: 0201; JLCPCB Basic Part: No; JLCPCB Part Number: C1329435; Supplier 1: LCSC; Category: Inductors; Supplier Part Number 1: C1329435; Rated Current: 800mA; DC Resistance: 80mΩ; RoHS: Yes; ComponentLink1Description: Datasheet; ComponentLink1URL: https://wmsc.lcsc.com/wmsc/upload/file/pdf/v2/lcsc/2304140030_Murata-Electronics-LQP03HQ1N8B02D_C1329435.pdf; ComponentLink2Description: JLCPCB Part URL; ComponentLink2URL: https://jlcpcb.com/partdetail/C1329435; ComponentLink3Description: LCSC Part URL; ComponentLink3URL: https://lcsc.com/product-detail/Inductors-SMD_Murata-Electronics-Murata-Electronics-LQP03HQ1N8B02D_C1329435.html
footprint IND-0201 (0201 (0603M) Inductor)
pins: 1, 2

## LQP03HQ2N0C02D
designator L?  Inductance: 2nH
Inductor, 2nH, 120mΩ, 600mA, SMD 0201; Manufacturer: Murata Electronics; Manufacturer Part Number: LQP03HQ2N0C02D; Self-Resonant Frequency: 9GHz; Q Factor: 20@500MHz; Package Size: 0201; JLCPCB Basic Part: No; JLCPCB Part Number: C426323; Supplier 1: LCSC; Category: Inductors; Supplier Part Number 1: C426323; Rated Current: 600mA; DC Resistance: 120mΩ; RoHS: Yes; ComponentLink1Description: Datasheet; ComponentLink1URL: https://wmsc.lcsc.com/wmsc/upload/file/pdf/v2/lcsc/2304140030_Murata-Electronics-LQP03HQ2N0C02D_C426323.pdf; ComponentLink2Description: JLCPCB Part URL; ComponentLink2URL: https://jlcpcb.com/partdetail/C426323; ComponentLink3Description: LCSC Part URL; ComponentLink3URL: https://lcsc.com/product-detail/Inductors-SMD_Murata-Electronics-Murata-Electronics-LQP03HQ2N0C02D_C426323.html
footprint IND-0201 (0201 (0603M) Inductor)
pins: 1, 2

## LQP03HQ2N2B02D
designator L?  Inductance: 2.2nH
Inductor, 2.2nH, 120mΩ, 600mA, SMD 0201; Manufacturer: Murata Electronics; Manufacturer Part Number: LQP03HQ2N2B02D; Self-Resonant Frequency: 14.3GHz; Q Factor: 20@500MHz; Package Size: 0201; JLCPCB Basic Part: No; JLCPCB Part Number: C1329438; Supplier 1: LCSC; Category: Inductors; Supplier Part Number 1: C1329438; Rated Current: 600mA; DC Resistance: 120mΩ; RoHS: Yes; ComponentLink1Description: Datasheet; ComponentLink1URL: https://wmsc.lcsc.com/wmsc/upload/file/pdf/v2/lcsc/2304140030_Murata-Electronics-LQP03HQ2N2B02D_C1329438.pdf; ComponentLink2Description: JLCPCB Part URL; ComponentLink2URL: https://jlcpcb.com/partdetail/C1329438; ComponentLink3Description: LCSC Part URL; ComponentLink3URL: https://lcsc.com/product-detail/Inductors-SMD_Murata-Electronics-Murata-Electronics-LQP03HQ2N2B02D_C1329438.html
footprint IND-0201 (0201 (0603M) Inductor)
pins: 1, 2

## LQP03HQ2N3B02D
designator L?  Inductance: 2.3nH
Inductor, 2.3nH, 120mΩ, 600mA, SMD 0201; Manufacturer: Murata Electronics; Manufacturer Part Number: LQP03HQ2N3B02D; Q Factor: 20@500MHz; Package Size: 0201; JLCPCB Basic Part: No; JLCPCB Part Number: C2975186; Supplier 1: LCSC; Category: Inductors; Supplier Part Number 1: C2975186; Rated Current: 600mA; DC Resistance: 120mΩ; RoHS: Yes; ComponentLink1Description: Datasheet; ComponentLink1URL: https://wmsc.lcsc.com/wmsc/upload/file/pdf/v2/lcsc/2202151130_Murata-Electronics-LQP03HQ2N3B02D_C2975186.pdf; ComponentLink2Description: JLCPCB Part URL; ComponentLink2URL: https://jlcpcb.com/partdetail/C2975186; ComponentLink3Description: LCSC Part URL; ComponentLink3URL: https://lcsc.com/product-detail/Inductors-SMD_Murata-Electronics-Murata-Electronics-LQP03HQ2N3B02D_C2975186.html
footprint IND-0201 (0201 (0603M) Inductor)
pins: 1, 2

## LQP03HQ2N4B02D
designator L?  Inductance: 2.4nH
Inductor, 2.4nH, 120mΩ, 600mA, SMD 0201; Manufacturer: Murata Electronics; Manufacturer Part Number: LQP03HQ2N4B02D; Self-Resonant Frequency: 9GHz; Q Factor: 20@500MHz; Package Size: 0201; JLCPCB Basic Part: No; JLCPCB Part Number: C2043647; Supplier 1: LCSC; Category: Inductors; Supplier Part Number 1: C2043647; Rated Current: 600mA; DC Resistance: 120mΩ; RoHS: Yes; ComponentLink1Description: Datasheet; ComponentLink1URL: https://wmsc.lcsc.com/wmsc/upload/file/pdf/v2/lcsc/2304140030_Murata-Electronics-LQP03HQ2N4B02D_C2043647.pdf; ComponentLink2Description: JLCPCB Part URL; ComponentLink2URL: https://jlcpcb.com/partdetail/C2043647; ComponentLink3Description: LCSC Part URL; ComponentLink3URL: https://lcsc.com/product-detail/Inductors-SMD_Murata-Electronics-Murata-Electronics-LQP03HQ2N4B02D_C2043647.html
footprint IND-0201 (0201 (0603M) Inductor)
pins: 1, 2

## LQP03HQ2N4C02D
designator L?  Inductance: 2.4nH
Inductor, 2.4nH, 120mΩ, 600mA, SMD 0201; Manufacturer: Murata Electronics; Manufacturer Part Number: LQP03HQ2N4C02D; Self-Resonant Frequency: 13GHz; Q Factor: 20@500MHz; Package Size: 0201; JLCPCB Basic Part: No; JLCPCB Part Number: C2043628; Supplier 1: LCSC; Category: Inductors; Supplier Part Number 1: C2043628; Rated Current: 600mA; DC Resistance: 120mΩ; RoHS: Yes; ComponentLink1Description: Datasheet; ComponentLink1URL: https://wmsc.lcsc.com/wmsc/upload/file/pdf/v2/lcsc/2304140030_Murata-Electronics-LQP03HQ2N4C02D_C2043628.pdf; ComponentLink2Description: JLCPCB Part URL; ComponentLink2URL: https://jlcpcb.com/partdetail/C2043628; ComponentLink3Description: LCSC Part URL; ComponentLink3URL: https://lcsc.com/product-detail/Inductors-SMD_Murata-Electronics-Murata-Electronics-LQP03HQ2N4C02D_C2043628.html
footprint IND-0201 (0201 (0603M) Inductor)
pins: 1, 2

## LQP03HQ2N7C02D
designator L?  Inductance: 2.7nH
Inductor, 2.7nH, 120mΩ, 600mA, SMD 0201; Manufacturer: Murata Electronics; Manufacturer Part Number: LQP03HQ2N7C02D; Self-Resonant Frequency: 9GHz; Q Factor: 20@500MHz; Package Size: 0201; JLCPCB Basic Part: No; JLCPCB Part Number: C437351; Supplier 1: LCSC; Category: Inductors; Supplier Part Number 1: C437351; Rated Current: 600mA; DC Resistance: 120mΩ; RoHS: Yes; ComponentLink1Description: Datasheet; ComponentLink1URL: https://wmsc.lcsc.com/wmsc/upload/file/pdf/v2/lcsc/2304140030_Murata-Electronics-LQP03HQ2N7C02D_C437351.pdf; ComponentLink2Description: JLCPCB Part URL; ComponentLink2URL: https://jlcpcb.com/partdetail/C437351; ComponentLink3Description: LCSC Part URL; ComponentLink3URL: https://lcsc.com/product-detail/Inductors-SMD_Murata-Electronics-Murata-Electronics-LQP03HQ2N7C02D_C437351.html
footprint IND-0201 (0201 (0603M) Inductor)
pins: 1, 2

## LQP03HQ3N0B02D
designator L?  Inductance: 3nH
Inductor, 3nH, 120mΩ, 600mA, SMD 0201; Manufacturer: Murata Electronics; Manufacturer Part Number: LQP03HQ3N0B02D; Self-Resonant Frequency: 8GHz; Q Factor: 20@500MHz; Package Size: 0201; JLCPCB Basic Part: No; JLCPCB Part Number: C2041469; Supplier 1: LCSC; Category: Inductors; Supplier Part Number 1: C2041469; Rated Current: 600mA; DC Resistance: 120mΩ; RoHS: Yes; ComponentLink1Description: Datasheet; ComponentLink1URL: https://wmsc.lcsc.com/wmsc/upload/file/pdf/v2/lcsc/2304140030_Murata-Electronics-LQP03HQ3N0B02D_C2041469.pdf; ComponentLink2Description: JLCPCB Part URL; ComponentLink2URL: https://jlcpcb.com/partdetail/C2041469; ComponentLink3Description: LCSC Part URL; ComponentLink3URL: https://lcsc.com/product-detail/Inductors-SMD_Murata-Electronics-Murata-Electronics-LQP03HQ3N0B02D_C2041469.html
footprint IND-0201 (0201 (0603M) Inductor)
pins: 1, 2

## LQP03HQ3N3B02D
designator L?  Inductance: 3.3nH
Inductor, 3.3nH, 170mΩ, 500mA, SMD 0201; Manufacturer: Murata Electronics; Manufacturer Part Number: LQP03HQ3N3B02D; Self-Resonant Frequency: 7GHz; Q Factor: 20@500MHz; Package Size: 0201; JLCPCB Basic Part: No; JLCPCB Part Number: C237380; Supplier 1: LCSC; Category: Inductors; Supplier Part Number 1: C237380; Rated Current: 500mA; DC Resistance: 170mΩ; RoHS: Yes; ComponentLink1Description: Datasheet; ComponentLink1URL: https://wmsc.lcsc.com/wmsc/upload/file/pdf/v2/lcsc/2304140030_Murata-Electronics-LQP03HQ3N3B02D_C237380.pdf; ComponentLink2Description: JLCPCB Part URL; ComponentLink2URL: https://jlcpcb.com/partdetail/C237380; ComponentLink3Description: LCSC Part URL; ComponentLink3URL: https://lcsc.com/product-detail/Inductors-SMD_Murata-Electronics-Murata-Electronics-LQP03HQ3N3B02D_C237380.html
footprint IND-0201 (0201 (0603M) Inductor)
pins: 1, 2

## LQP03HQ3N6B02D
designator L?  Inductance: 3.6nH
Inductor, 3.6nH, 170mΩ, 500mA, SMD 0201; Manufacturer: Murata Electronics; Manufacturer Part Number: LQP03HQ3N6B02D; Self-Resonant Frequency: 7GHz; Q Factor: 20@500MHz; Package Size: 0201; JLCPCB Basic Part: No; JLCPCB Part Number: C237447; Supplier 1: LCSC; Category: Inductors; Supplier Part Number 1: C237447; Rated Current: 500mA; DC Resistance: 170mΩ; RoHS: Yes; ComponentLink1Description: Datasheet; ComponentLink1URL: https://wmsc.lcsc.com/wmsc/upload/file/pdf/v2/lcsc/2304140030_Murata-Electronics-LQP03HQ3N6B02D_C237447.pdf; ComponentLink2Description: JLCPCB Part URL; ComponentLink2URL: https://jlcpcb.com/partdetail/C237447; ComponentLink3Description: LCSC Part URL; ComponentLink3URL: https://lcsc.com/product-detail/Inductors-SMD_Murata-Electronics-Murata-Electronics-LQP03HQ3N6B02D_C237447.html
footprint IND-0201 (0201 (0603M) Inductor)
pins: 1, 2

## LQP03HQ3N9B02D
designator L?  Inductance: 3.9nH
Inductor, 3.9nH, 170mΩ, 500mA, SMD 0201; Manufacturer: Murata Electronics; Manufacturer Part Number: LQP03HQ3N9B02D; Self-Resonant Frequency: 7GHz; Q Factor: 20@500MHz; Package Size: 0201; JLCPCB Basic Part: No; JLCPCB Part Number: C337939; Supplier 1: LCSC; Category: Inductors; Supplier Part Number 1: C337939; Rated Current: 500mA; DC Resistance: 170mΩ; RoHS: Yes; ComponentLink1Description: Datasheet; ComponentLink1URL: https://wmsc.lcsc.com/wmsc/upload/file/pdf/v2/lcsc/2304140030_Murata-Electronics-LQP03HQ3N9B02D_C337939.pdf; ComponentLink2Description: JLCPCB Part URL; ComponentLink2URL: https://jlcpcb.com/partdetail/C337939; ComponentLink3Description: LCSC Part URL; ComponentLink3URL: https://lcsc.com/product-detail/Inductors-SMD_Murata-Electronics-Murata-Electronics-LQP03HQ3N9B02D_C337939.html
footprint IND-0201 (0201 (0603M) Inductor)
pins: 1, 2

## LQP03HQ4N1B02D
designator L?  Inductance: 4.1nH
Inductor, 4.1nH, 170mΩ, 500mA, SMD 0201; Manufacturer: Murata Electronics; Manufacturer Part Number: LQP03HQ4N1B02D; Self-Resonant Frequency: 7GHz; Q Factor: 20@500MHz; Package Size: 0201; JLCPCB Basic Part: No; JLCPCB Part Number: C269807; Supplier 1: LCSC; Category: Inductors; Supplier Part Number 1: C269807; Rated Current: 500mA; DC Resistance: 170mΩ; RoHS: Yes; ComponentLink1Description: Datasheet; ComponentLink1URL: https://wmsc.lcsc.com/wmsc/upload/file/pdf/v2/lcsc/2308111549_Murata-Electronics-LQP03HQ4N1B02D_C269807.pdf; ComponentLink2Description: JLCPCB Part URL; ComponentLink2URL: https://jlcpcb.com/partdetail/C269807; ComponentLink3Description: LCSC Part URL; ComponentLink3URL: https://lcsc.com/product-detail/Inductors-SMD_Murata-Electronics-Murata-Electronics-LQP03HQ4N1B02D_C269807.html
footprint IND-0201 (0201 (0603M) Inductor)
pins: 1, 2